# EAGLE library part 16P_SMD_2.54MM (library CYCFI_Con)
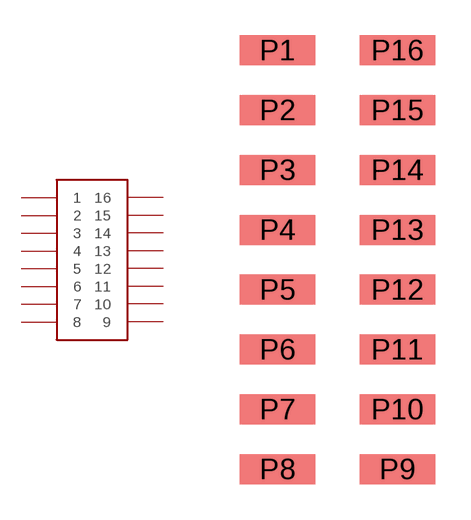
[diagram p6: symbol with the pads of 16P_SMD_2.54MM; footprint 16P_SMD_2.54MM]

Designator prefix -

## 16P_SMD_2.54MM  [16P_SMD_2.54MM]
P1  1
P2  2
P3  3
P4  4
P5  5
P6  6
P7  7
P8  8
P9  9
P10  10
P11  11
P12  12
P13  13
P14  14
P15  15
P16  16

## Footprint 16P_SMD_2.54MM (pad centres in mm)
smd 3.2 x 1.27: P1 -2.54,8.89; P2 -2.54,6.35; P3 -2.54,3.81; P4 -2.54,1.27; P5 -2.54,-1.27; P6 -2.54,-3.81; P7 -2.54,-6.35; P8 -2.54,-8.89; P9 2.54,-8.89; P10 2.54,-6.35; P11 2.54,-3.81; P12 2.54,-1.27; P13 2.54,1.27; P14 2.54,3.81; P15 2.54,6.35; P16 2.54,8.89